# Altium footprint library VR jpypad.PcbLib: 4 footprints
Each footprint in its own frame and in the unit in brackets; x right, y up, seen from the top. Pads: shape width x height; smd on the part's side, far side on the other; paste and mask are expansions set on the pad; w line width, h text height; cw(c..) or ccw(c..) is an arc to the next point about the centre after c.
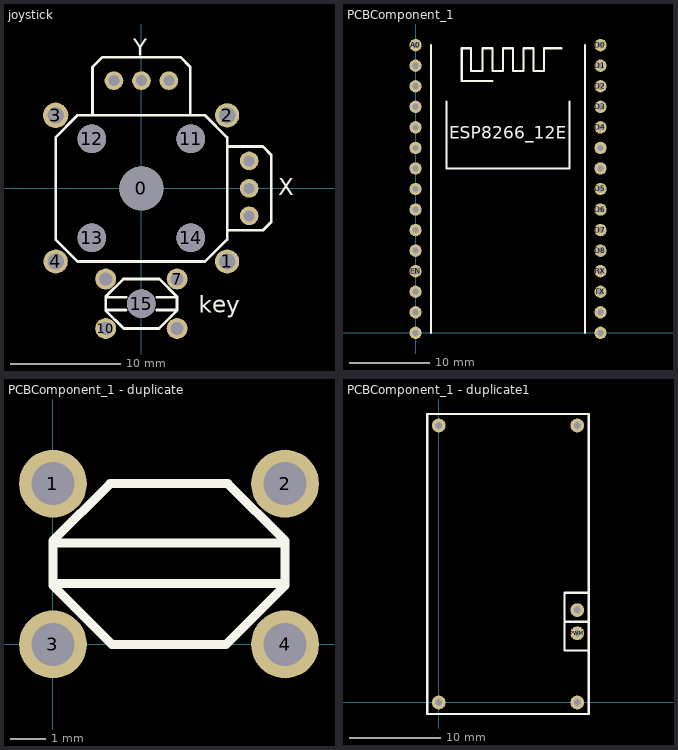
[diagram p0: the footprints below, top view; thin cyan lines are the x and y axes]

## joystick [mm]
pads (20):
  round 4 hole 4: 0(0,0)
  round 2.2 hole 1.5: 1(7.8,-6.65) 2(7.8,6.65) 4(-7.8,-6.65)
  round 2.3 hole 1.5: 3(-7.8,6.65)
  round 1.9 hole 1.2: 7(3.25,-8.25) 10(-3.25,-12.75) key_1(-3.25,-8.25) key_2(3.25,-12.75)
  round 2.6 hole 2.6: 11(4.5,4.5) 12(-4.5,4.5) 13(-4.5,-4.5) 14(4.5,-4.5) 15(0,-10.5)
  round 1.7 hole 1: GND_x(9.8,-2.5) GND_y(2.5,9.8) out_x(9.8,0) out_y(0,9.8) VCC_x(9.8,2.5) VCC_y(-2.5,9.8)
Top Overlay:
  lines w0.254: -4.445,6.65 -4.445,11.049 -3.556,11.938 3.556,11.938 4.445,11.049 4.445,6.65 ; -3.25,-11.049 -1.397,-11.049 ; -3.25,-9.906 -1.397,-9.906 ; 1.397,-11.049 3.25,-11.049 ; 1.397,-9.906 3.25,-9.906 ; 7.8,-3.81 11.049,-3.81 11.811,-3.048 11.811,-2.794 11.811,3.048 11.049,3.81 7.8,3.81 ; -7.8,-4.646 -5.796,-6.65 5.796,-6.65 7.8,-4.646 7.8,4.646 5.796,6.65 -5.796,6.65 -7.8,4.646 -7.8,-4.646 ; -3.25,-11.101 -1.601,-12.75 1.601,-12.75 3.25,-11.101 3.25,-9.854 1.646,-8.25 -1.646,-8.25 -3.25,-9.854 -3.25,-11.101
  text "key" at 5.207,-11.303 h1.52
  text "Y" at -0.762,12.065 h1.52
  text "X" at 12.446,-0.635 h1.52

## PCBComponent_1 [mil]
pads (30):
  round 60 hole 30: 3V3(900,0) A0(0,1400) CLK(0,600) CMD(0,800) D0(900,1400) D1(900,1300) D2(900,1200) D3(900,1100) D4(900,1000) D5(900,700) D6(900,600) D7(900,500) D8(900,400) EN(0,300) GND1(0,500) GND2(0,100) GND3(900,100) GND4(900,800) RST(0,200) RSV1(0,1300) RSV2(0,1200) RX(900,300) SD0(0,700) SD1(0,900) SD2(0,1000) SD3(0,1100) TX(900,200) VCC1(0,400) VCC2(900,900) Vin(0,0)
Top Overlay:
  lines w10: 75,0 75,1400 ; 150,1125 150,800 750,800 750,1125 ; 375,1225 225,1225 225,1385 270,1385 270,1275 325,1275 325,1385 375,1385 375,1275 425,1275 425,1385 475,1385 475,1275 525,1275 525,1385 575,1385 575,1275 625,1275 625,1385 710,1385 ; 825,0 825,1400
  text "ESP8266_12E" at 165,945 h60

## PCBComponent_1 - duplicate [mm]
pads (4):
  round 1.9 hole 1.2: 1(0,4.5) 2(6.5,4.5) 3(0,0) 4(6.5,0)
Top Overlay:
  lines w0.254: 0,1.701 4.647,1.701 6.5,1.701 ; 0,2.844 4.647,2.844 6.5,2.844 ; 0,1.649 1.649,0 4.851,0 6.5,1.649 6.5,2.896 4.896,4.5 1.604,4.5 0,2.896 0,1.649

## PCBComponent_1 - duplicate1 [mil]
pads (6):
  round 60 hole 30: LED+(600,1200) LED-(0,1200) PowerGND(600,400) PWM(600,300) VIN+(600,0) VIN-(0,0)
Top Overlay:
  lines w10: 545,350 650,350 ; 650,225 545,225 545,475 650,475 ; -50,-50 650,-50 650,1250 605,1250 0,1250 -50,1250 -50,-50